# EAGLE library part PCT2075TP,147 (library PCT2075)
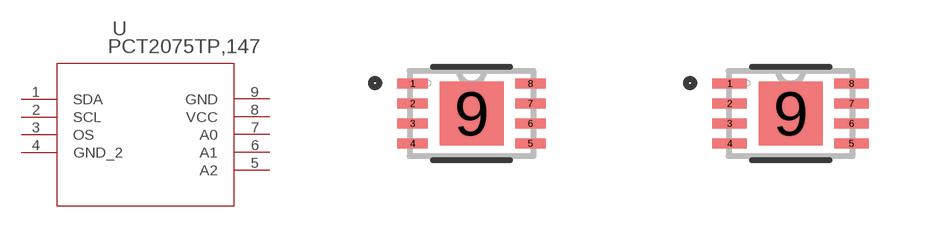
[diagram p0: symbol with the pads of HWSON8_SOT1069-2_NXP; footprints HWSON8_SOT1069-2_NXP, HWSON8_SOT1069-2_NXP-M]

Designator prefix U

## PCT2075TP,147 (COPYRIGHT: Copyright (C) 2023 Ultra Librarian. All rights reserved.; MANUFACTURER_PART_NUMBER: PCT2075TP,147; MFR_NAME: NXP)  [HWSON8_SOT1069-2_NXP]
1  SDA
2  SCL  in
3  OS  out
4  GND_2  pas
5  A2  in
6  A1  in
7  A0  in
8  VCC  pwr
9  GND  pas

## PCT2075TP,147HWSON8_SOT1069-2_NXP-M (COPYRIGHT: Copyright (C) 2023 Ultra Librarian. All rights reserved.; MANUFACTURER_PART_NUMBER: PCT2075TP,147; MFR_NAME: NXP)  [HWSON8_SOT1069-2_NXP-M]
Pads as for HWSON8_SOT1069-2_NXP

## PCT2075TP,147HWSON8_SOT1069-2_NXP-L (COPYRIGHT: Copyright (C) 2023 Ultra Librarian. All rights reserved.; MANUFACTURER_PART_NUMBER: PCT2075TP,147; MFR_NAME: NXP)  [HWSON8_SOT1069-2_NXP-L]
Pads as for HWSON8_SOT1069-2_NXP

## Footprint HWSON8_SOT1069-2_NXP (pad centres in mm)
smd 0.762 x 0.254: 1 -1.473,0.75; 2 -1.473,0.25; 3 -1.473,-0.25; 4 -1.473,-0.75; 5 1.473,-0.75; 6 1.473,-0.25; 7 1.473,0.25; 8 1.473,0.75
smd 1.6 x 1.6: 9 0,0

## Footprint HWSON8_SOT1069-2_NXP-M (pad centres in mm)
smd 0.864 x 0.254: 1 -1.524,0.75; 2 -1.524,0.25; 3 -1.524,-0.25; 4 -1.524,-0.75; 5 1.524,-0.75; 6 1.524,-0.25; 7 1.524,0.25; 8 1.524,0.75
smd 1.6 x 1.6: 9 0,0

## Footprint HWSON8_SOT1069-2_NXP-L (pad centres in mm)
smd 0.66 x 0.254: 1 -1.422,0.75; 2 -1.422,0.25; 3 -1.422,-0.25; 4 -1.422,-0.75; 5 1.422,-0.75; 6 1.422,-0.25; 7 1.422,0.25; 8 1.422,0.75
smd 1.6 x 1.6: 9 0,0